# EAGLE library part IS61WV6416EEBLL-10BLI (library ICs)
64K x 16 HIGH SPEED 10ns ASYNCHRONOUS CMOS STATIC RAM WITH ECC
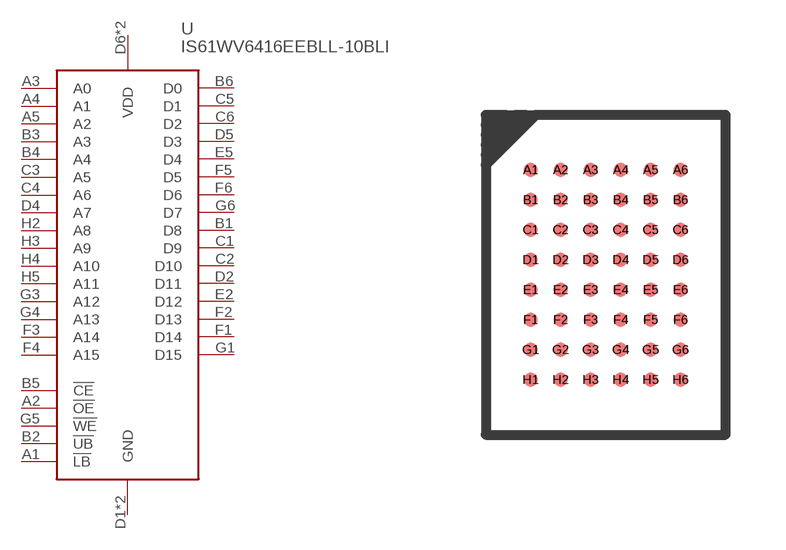
[diagram p141: symbol with the pads of TFBGA48L-6X8; footprint TFBGA48L-6X8]

Designator prefix U

## IS61WV6416EEBLL-10BLI (DIGIKEY: 706-1394-ND; PRICE_PER: 1.37; VALUE: IS61WV6416)  [TFBGA48L-6X8]
A1  !LB
A2  !OE
A3  A0
A4  A1
A5  A2
B1  D8
B2  !UB
B3  A3
B4  A4
B5  !CE
B6  D0
C1  D9
C2  D10
C3  A5
C4  A6
C5  D1
C6  D2
D1  GND
D2  D11
D4  A7
D5  D3
D6  VDD
E1  VDD
E2  D12
E5  D4
E6  GND
F1  D14
F2  D13
F3  A14
F4  A15
F5  D5
F6  D6
G1  D15
G3  A12
G4  A13
G5  !WE
G6  D7
H2  A8
H3  A9
H4  A10
H5  A11

## Footprint TFBGA48L-6X8 (pad centres in mm)
smd 0.35 x 0.35: A1 -1.875,2.625; A2 -1.125,2.625; A3 -0.375,2.625; A4 0.375,2.625; A5 1.125,2.625; A6 1.875,2.625; B1 -1.875,1.875; B2 -1.125,1.875; B3 -0.375,1.875; B4 0.375,1.875; B5 1.125,1.875; B6 1.875,1.875; C1 -1.875,1.125; C2 -1.125,1.125; C3 -0.375,1.125; C4 0.375,1.125; C5 1.125,1.125; C6 1.875,1.125; D1 -1.875,0.375; D2 -1.125,0.375; D3 -0.375,0.375; D4 0.375,0.375; D5 1.125,0.375; D6 1.875,0.375; E1 -1.875,-0.375; E2 -1.125,-0.375; E3 -0.375,-0.375; E4 0.375,-0.375; E5 1.125,-0.375; E6 1.875,-0.375; F1 -1.875,-1.125; F2 -1.125,-1.125; F3 -0.375,-1.125; F4 0.375,-1.125; F5 1.125,-1.125; F6 1.875,-1.125; G1 -1.875,-1.875; G2 -1.125,-1.875; G3 -0.375,-1.875; G4 0.375,-1.875; G5 1.125,-1.875; G6 1.875,-1.875; H1 -1.875,-2.625; H2 -1.125,-2.625; H3 -0.375,-2.625; H4 0.375,-2.625; H5 1.125,-2.625; H6 1.875,-2.625